# EAGLE library part LPS33HWTR (library Deegou_IC)
Pressure Sensor
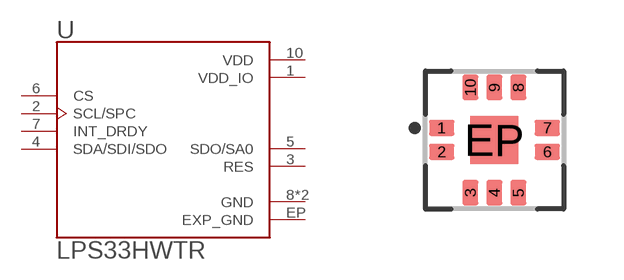
[diagram p154: symbol with the pads of PQFN60P330X330X290-11N; footprint PQFN60P330X330X290-11N]

Designator prefix U

## LPS33HWTR (DESCRIPTION: Pressure Sensor; DIGI-KEY_PART_NUMBER: 497-17590-1-ND; DIGI-KEY_PURCHASE_URL: https://www.digikey.com/product-detail/en/stmicroelectronics/LPS33HWTR/497-17590-1-ND/7565514?utm_source=snapeda&utm_medium=aggregator&utm_campaign=symbol; MF: STMicroelectronics; MP: LPS33HWTR; PACKAGE: LGA STMicroelectronics)  [PQFN60P330X330X290-11N]
1  VDD_IO  pwr
2  SCL/SPC  in
3  RES  pas
4  SDA/SDI/SDO
5  SDO/SA0  out
6  CS  in
7  INT_DRDY  in
8  GND  pwr
9  GND  pwr
10  VDD  pwr
EP  EXP_GND  pwr

## Footprint PQFN60P330X330X290-11N (pad centres in mm)
smd 0.63 x 0.4: 1 -1.32,0.3; 2 -1.32,-0.3; 6 1.32,-0.3; 7 1.32,0.3
smd 0.4 x 0.63: 3 -0.6,-1.32; 4 0,-1.32; 5 0.6,-1.32; 8 0.6,1.32; 9 0,1.32; 10 -0.6,1.32
smd 1.2 x 1.2: EP 0,0